# EAGLE library part SN74*2G14 (library lio)
TinyLogic(R) UHS Inverter with Schmitt Trigger Input Source: http://www.ti.com/lit/ds/symlink/sn74lvc2g14.pdf
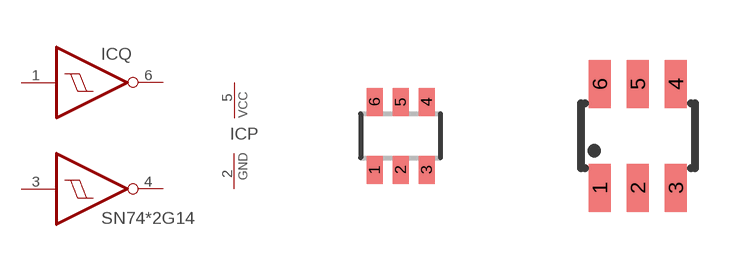
[diagram p16: symbol with the pads of SC70-6; footprints SC70-6, SOT23-6]

Designator prefix IC; gates Q=7414 P=PWRN

## SN74LVC2G14DCK  [SC70-6]
1  Q:1A  in
2  P:GND  pwr
3  Q:2A  in
4  Q:2Y  out
5  P:VCC  pwr
6  Q:1Y  out

## SN74LVC2G14DBV  [SOT23-6]
Pads as for SC70-6

## Footprint SC70-6 (pad centres in mm)
SMT SC70-5 SOT353 - Philips Semiconductors Source: http://www.semiconductors.philips.com/acrobat_download/datasheets/74HC_HCT1G66_3.pdf
smd 0.4 x 0.7: 1 -0.65,-0.85; 2 0,-0.85; 3 0.65,-0.85; 4 0.65,0.85; 5 0,0.85; 6 -0.65,0.85

## Footprint SOT23-6 (pad centres in mm)
smd 0.55 x 1.2: 1 -0.95,-1.3; 2 0,-1.3; 3 0.95,-1.3; 4 0.95,1.3; 5 0,1.3; 6 -0.95,1.3